# Altium integrated library RC1210FR-07330RL.IntLib: 1 symbol
Pins are listed as number, name and electrical type; pins without a type are passive.

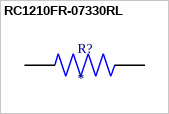
[diagram p0: symbol RC1210FR-07330RL]

## RC1210FR-07330RL
designator R?
330 Ohms Â±1% 0.5W, 1/2W Chip Resistor 1210 (3225 Metric) Moisture Resistant Thick Film; MF: Yageo; MP: RC1210FR-07330RL; SnapEDA_Link: https://www.snapeda.com/parts/RC1210FR-07330RL/Yageo/view-part/?ref=snap; Package: 3126 Yageo; Value: *; Check_prices: https://www.snapeda.com/parts/RC1210FR-07330RL/Yageo/view-part/?ref=eda
footprint RESC3126X65N
pins: 1, 2